# EAGLE library part IC_DIL24 (library dp_devices)
Universal 24 pins IC
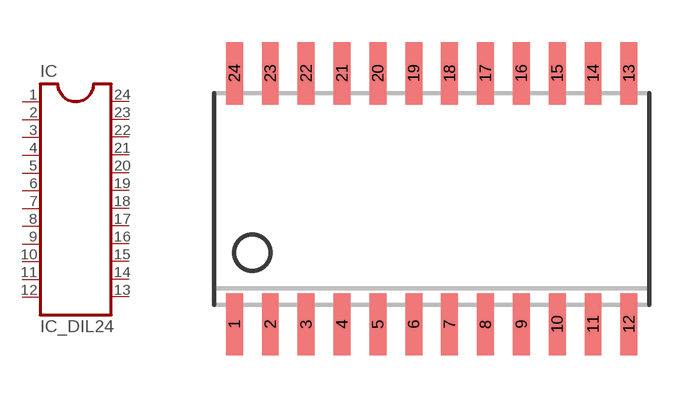
[diagram p131: symbol with the pads of SOIC-24; footprint SOIC-24]

Designator prefix IC

## IC_DIL24-SOIC-24W  [SOIC-24]
1  1
2  2
3  3
4  4
5  5
6  6
7  7
8  8
9  9
10  10
11  11
12  12
13  13
14  14
15  15
16  16
17  17
18  18
19  19
20  20
21  21
22  22
23  23
24  24

## Footprint SOIC-24 (pad centres in mm)
smd 0.6 x 2.2: 1 -6.985,-4.445; 2 -5.715,-4.445; 3 -4.445,-4.445; 4 -3.175,-4.445; 5 -1.905,-4.445; 6 -0.635,-4.445; 7 0.635,-4.445; 8 1.905,-4.445; 9 3.175,-4.445; 10 4.445,-4.445; 11 5.715,-4.445; 12 6.985,-4.445; 13 6.985,4.445; 14 5.715,4.445; 15 4.445,4.445; 16 3.175,4.445; 17 1.905,4.445; 18 0.635,4.445; 19 -0.635,4.445; 20 -1.905,4.445; 21 -3.175,4.445; 22 -4.445,4.445; 23 -5.715,4.445; 24 -6.985,4.445